# EAGLE library part DS04E (library switch-dil)
DIL/CODE SWITCH
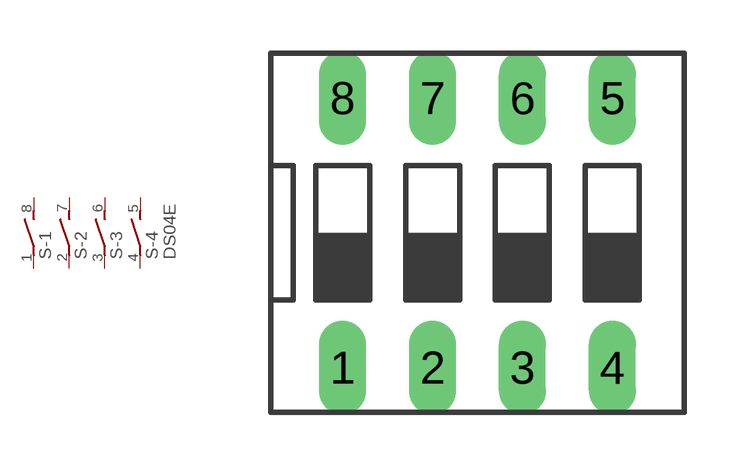
[diagram p11: symbol with the pads of DS-04; footprint DS-04]

Designator prefix S; gates -1=S -2=S -3=S -4=S+V

## DS04E (OC_FARNELL: unknown; OC_NEWARK: unknown)  [DS-04]
1  -1:1  pas
2  -2:1  pas
3  -3:1  pas
4  -4:1  pas
5  -4:2  pas
6  -3:2  pas
7  -2:2  pas
8  -1:2  pas

## Footprint DS-04 (pad centres in mm)
DIL/CODE SWITCH Mors distributor Buerklin, 17G554
drill 0.813 long: 1 -3.81,-3.81; 2 -1.27,-3.81; 3 1.27,-3.81; 4 3.81,-3.81; 5 3.81,3.81; 6 1.27,3.81; 7 -1.27,3.81; 8 -3.81,3.81